# EAGLE library part ADP1611 (library ic)
ADP1611: DC/DC step-up converter (Analog Devices) 3.3V in, <20V out, 1.2A Iout, 700kHz-1.2MHz PWM
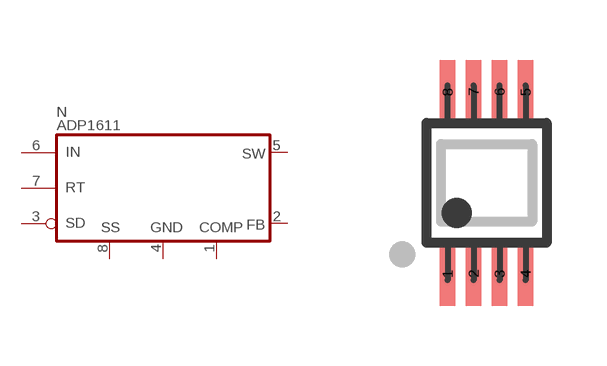
[diagram p132: symbol with the pads of MSOP08; footprint MSOP08]

Designator prefix N

## ADP1611  [MSOP08]
1  COMP  pas
2  FB  in
3  SD  in
4  GND  pwr
5  SW  out
6  IN  pwr
7  RT  in
8  SS  pas

## Footprint MSOP08 (pad centres in mm)
MSOP-8, 8-pin SMD package 3x3mm, 0.65mm pin distance
smd 0.38 x 1.6: 1 -0.975,-2.275; 2 -0.325,-2.275; 3 0.325,-2.275; 4 0.975,-2.275; 5 0.975,2.275; 6 0.325,2.275; 7 -0.325,2.275; 8 -0.975,2.275